# Altium schematic symbol library ISSI SRAM ASynchronous SRAM High Speed Low Power.SchLib: 413 symbols (part 2 of 21)
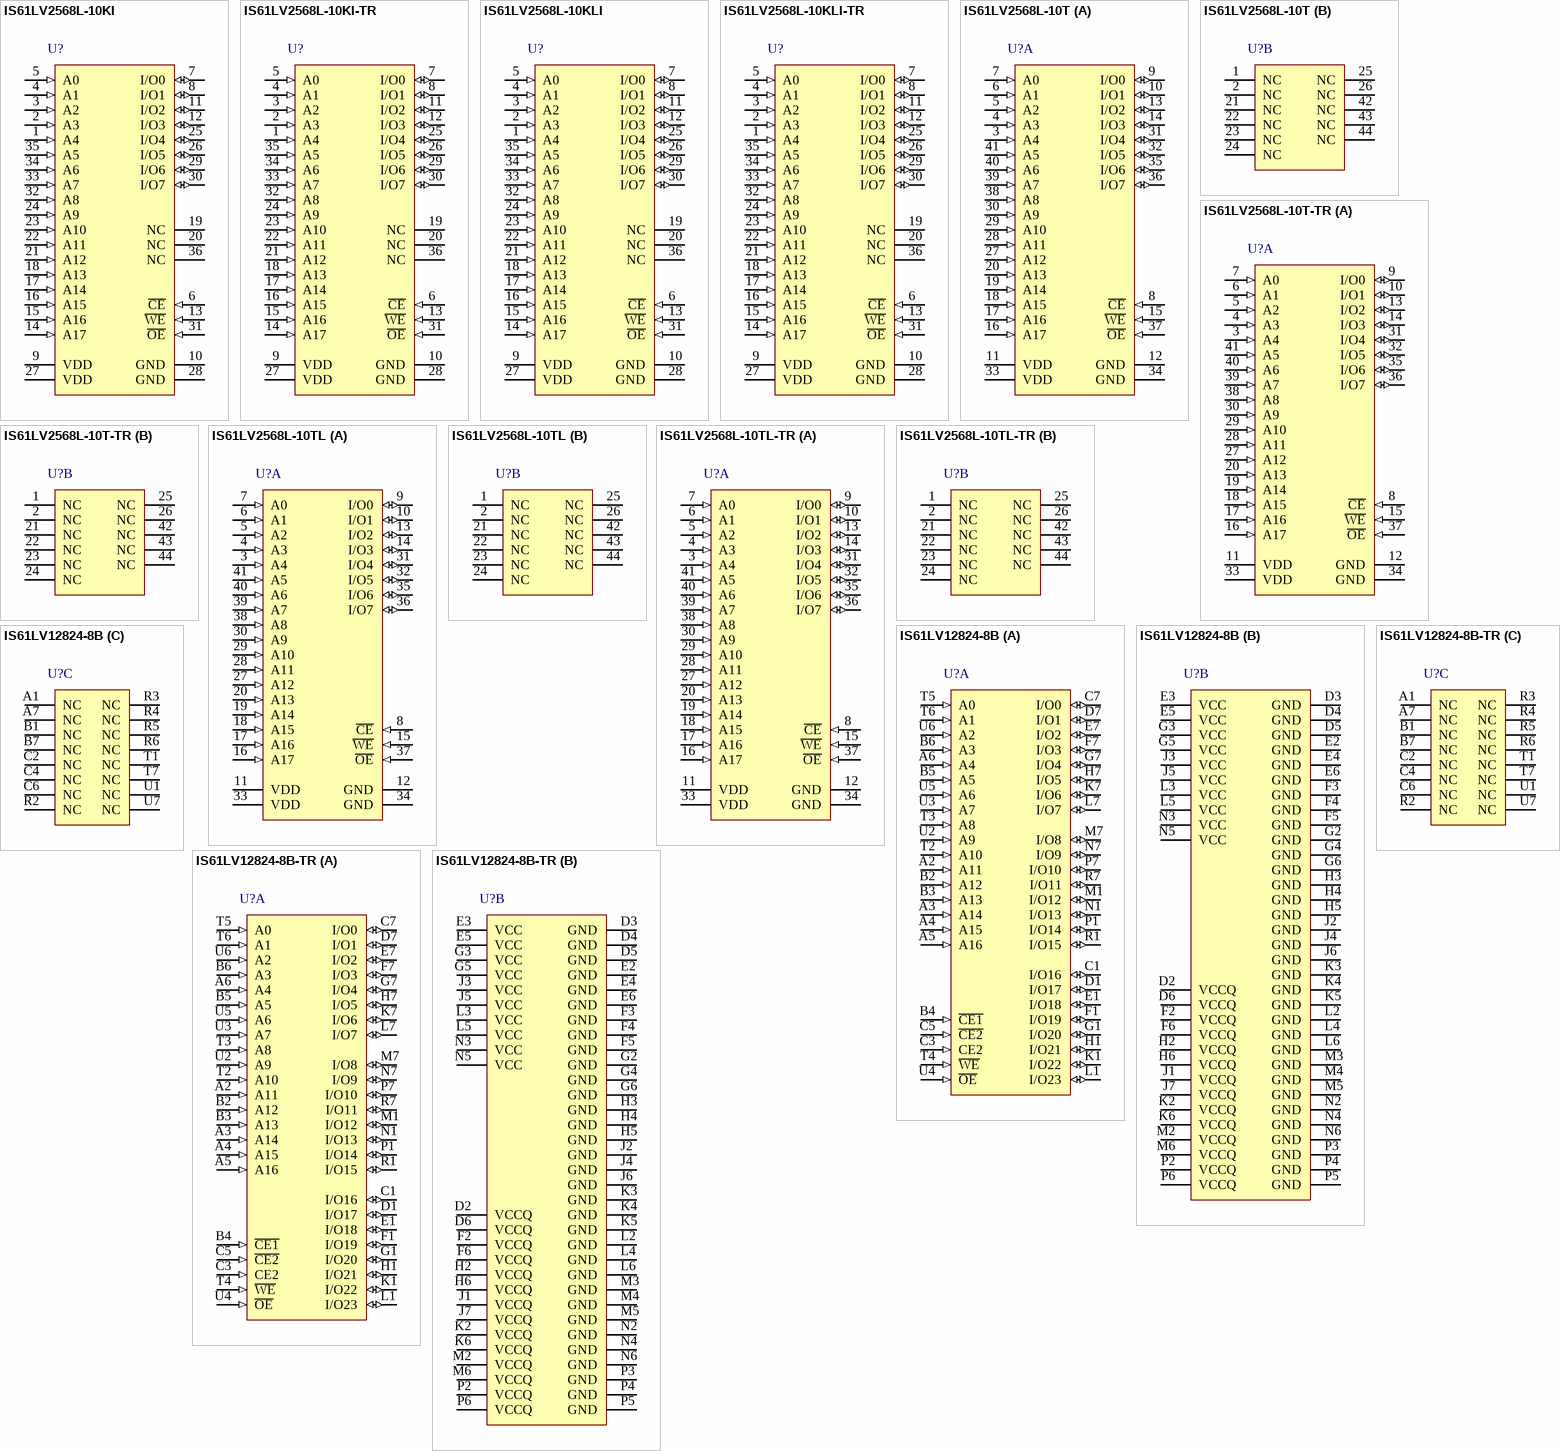
[diagram p29: symbols IS61LV2568L-10KI to IS61LV12824-8B-TR]

## IS61LV2568L-10T
designator U?
2 M High Speed CMOS SRAM, 256 K x 8, 0 to 70 degC, 44-Pin SOP (TSOP-2-44); Manufacturer: Integrated Silicon Solution Inc (ISSI); PartNumber: IS61LV2568L-10T; Density: 2M; Organization: 256K x 8; Packing: Tray / Tube; Speed (ns): 10; DatasheetVersion: Rev. D; PackageVersion: Rev. F, 06/2008; PackageReference: TSOP-2-44; PackageDescription: 44-Pin 400 mil TSOP-2, Body 18.41 x 10.16 mm, Pitch 0.8 mm; Supplier 1: Digi-Key; Supplier Part Number 1: IS61LV2568L-10T-ND; Supplier 2: Mouser; Supplier Part Number 2: 870-IS61LV2568L-10T; Mounting Technology: Surface Mount; ComponentLink1Description: Manufacturer URL; ComponentLink1URL: http://www.issi.com/US/index.shtml; ComponentLink2Description: Datasheet; ComponentLink2URL: http://www.issi.com/WW/pdf/61LV2568L.pdf; ComponentLink3Description: Package Specification; ComponentLink3URL: http://www.issi.com/WW/pdf/61-64WV6416EEBLL.pdf
footprint ISSI-TSOP-2-44_N (SOP, 44-Leads, Body 18.5x10.3mm, Pitch 0.8mm, IPC Medium Density)
part A pins: 3 A4 (in) "Address Input", 4 A3 (in) "Address Input", 5 A2 (in) "Address Input", 6 A1 (in) "Address Input", 7 A0 (in) "Address Input", 8 ~{CE} (in) "Chip Enable Input", 9 I/O0 (io) "Bidirectional Port", 10 I/O1 (io) "Bidirectional Port", 11 VDD (power) "Power", 12 GND (power) "Ground", 13 I/O2 (io) "Bidirectional Port", 14 I/O3 (io) "Bidirectional Port", 15 ~{WE} (in) "Write Enable Input", 16 A17 (in) "Address Input", 17 A16 (in) "Address Input", 18 A15 (in) "Address Input", 19 A14 (in) "Address Input", 20 A13 (in) "Address Input", 27 A12 (in) "Address Input", 28 A11 (in) "Address Input", 29 A10 (in) "Address Input", 30 A9 (in) "Address Input", 31 I/O4 (io) "Bidirectional Port", 32 I/O5 (io) "Bidirectional Port", 33 VDD (power) "Power", 34 GND (power) "Ground", 35 I/O6 (io) "Bidirectional Port", 36 I/O7 (io) "Bidirectional Port", 37 ~{OE} (in) "Output Enable Input", 38 A8 (in) "Address Input", 39 A7 (in) "Address Input", 40 A6 (in) "Address Input", 41 A5 (in) "Address Input"
part B pins: 1 NC "No Connection", 2 NC "No Connection", 21 NC "No Connection", 22 NC "No Connection", 23 NC "No Connection", 24 NC "No Connection", 25 NC "No Connection", 26 NC "No Connection", 42 NC "No Connection", 43 NC "No Connection", 44 NC "No Connection"

## IS61LV2568L-10T-TR
designator U?
2 M High Speed CMOS SRAM, 256 K x 8, 0 to 70 degC, 44-Pin SOP (TSOP-2-44); Manufacturer: Integrated Silicon Solution Inc (ISSI); PartNumber: IS61LV2568L-10T-TR; Density: 2M; Organization: 256K x 8; Packing: Tape & Reel; Speed (ns): 10; DatasheetVersion: Rev. D; PackageVersion: Rev. F, 06/2008; PackageReference: TSOP-2-44; PackageDescription: 44-Pin 400 mil TSOP-2, Body 18.41 x 10.16 mm, Pitch 0.8 mm; Supplier 1: Digi-Key; Supplier Part Number 1: IS61LV2568L-10T-TR-ND; Supplier 2: Mouser; Supplier Part Number 2: 870IS61LV2568L10TTR; Mounting Technology: Surface Mount; ComponentLink1Description: Manufacturer URL; ComponentLink1URL: http://www.issi.com/US/index.shtml; ComponentLink2Description: Datasheet; ComponentLink2URL: http://www.issi.com/WW/pdf/61LV2568L.pdf; ComponentLink3Description: Package Specification; ComponentLink3URL: http://www.issi.com/WW/pdf/61-64WV6416EEBLL.pdf
footprint ISSI-TSOP-2-44_N (SOP, 44-Leads, Body 18.5x10.3mm, Pitch 0.8mm, IPC Medium Density)
part A pins: 3 A4 (in) "Address Input", 4 A3 (in) "Address Input", 5 A2 (in) "Address Input", 6 A1 (in) "Address Input", 7 A0 (in) "Address Input", 8 ~{CE} (in) "Chip Enable Input", 9 I/O0 (io) "Bidirectional Port", 10 I/O1 (io) "Bidirectional Port", 11 VDD (power) "Power", 12 GND (power) "Ground", 13 I/O2 (io) "Bidirectional Port", 14 I/O3 (io) "Bidirectional Port", 15 ~{WE} (in) "Write Enable Input", 16 A17 (in) "Address Input", 17 A16 (in) "Address Input", 18 A15 (in) "Address Input", 19 A14 (in) "Address Input", 20 A13 (in) "Address Input", 27 A12 (in) "Address Input", 28 A11 (in) "Address Input", 29 A10 (in) "Address Input", 30 A9 (in) "Address Input", 31 I/O4 (io) "Bidirectional Port", 32 I/O5 (io) "Bidirectional Port", 33 VDD (power) "Power", 34 GND (power) "Ground", 35 I/O6 (io) "Bidirectional Port", 36 I/O7 (io) "Bidirectional Port", 37 ~{OE} (in) "Output Enable Input", 38 A8 (in) "Address Input", 39 A7 (in) "Address Input", 40 A6 (in) "Address Input", 41 A5 (in) "Address Input"
part B pins: 1 NC "No Connection", 2 NC "No Connection", 21 NC "No Connection", 22 NC "No Connection", 23 NC "No Connection", 24 NC "No Connection", 25 NC "No Connection", 26 NC "No Connection", 42 NC "No Connection", 43 NC "No Connection", 44 NC "No Connection"

## IS61LV2568L-10TL
designator U?
2 M High Speed CMOS SRAM, 256 K x 8, 0 to 70 degC, 44-Pin SOP (TSOP-2-44), Pb-Free; Manufacturer: Integrated Silicon Solution Inc (ISSI); PartNumber: IS61LV2568L-10TL; Density: 2M; Organization: 256K x 8; Packing: Tray / Tube; Speed (ns): 10; DatasheetVersion: Rev. D; PackageVersion: Rev. F, 06/2008; PackageReference: TSOP-2-44; PackageDescription: 44-Pin 400 mil TSOP-2, Body 18.41 x 10.16 mm, Pitch 0.8 mm; Supplier 1: Digi-Key; Supplier Part Number 1: IS61LV2568L-10TL-ND; Supplier 2: Mouser; Supplier Part Number 2: 870-IS61LV2568L-10TL; RoHS: Pb-Free; Mounting Technology: Surface Mount; ComponentLink1Description: Manufacturer URL; ComponentLink1URL: http://www.issi.com/US/index.shtml; ComponentLink2Description: Datasheet; ComponentLink2URL: http://www.issi.com/WW/pdf/61LV2568L.pdf; ComponentLink3Description: Package Specification; ComponentLink3URL: http://www.issi.com/WW/pdf/61-64WV6416EEBLL.pdf
footprint ISSI-TSOP-2-44_N (SOP, 44-Leads, Body 18.5x10.3mm, Pitch 0.8mm, IPC Medium Density)
part A pins: 3 A4 (in) "Address Input", 4 A3 (in) "Address Input", 5 A2 (in) "Address Input", 6 A1 (in) "Address Input", 7 A0 (in) "Address Input", 8 ~{CE} (in) "Chip Enable Input", 9 I/O0 (io) "Bidirectional Port", 10 I/O1 (io) "Bidirectional Port", 11 VDD (power) "Power", 12 GND (power) "Ground", 13 I/O2 (io) "Bidirectional Port", 14 I/O3 (io) "Bidirectional Port", 15 ~{WE} (in) "Write Enable Input", 16 A17 (in) "Address Input", 17 A16 (in) "Address Input", 18 A15 (in) "Address Input", 19 A14 (in) "Address Input", 20 A13 (in) "Address Input", 27 A12 (in) "Address Input", 28 A11 (in) "Address Input", 29 A10 (in) "Address Input", 30 A9 (in) "Address Input", 31 I/O4 (io) "Bidirectional Port", 32 I/O5 (io) "Bidirectional Port", 33 VDD (power) "Power", 34 GND (power) "Ground", 35 I/O6 (io) "Bidirectional Port", 36 I/O7 (io) "Bidirectional Port", 37 ~{OE} (in) "Output Enable Input", 38 A8 (in) "Address Input", 39 A7 (in) "Address Input", 40 A6 (in) "Address Input", 41 A5 (in) "Address Input"
part B pins: 1 NC "No Connection", 2 NC "No Connection", 21 NC "No Connection", 22 NC "No Connection", 23 NC "No Connection", 24 NC "No Connection", 25 NC "No Connection", 26 NC "No Connection", 42 NC "No Connection", 43 NC "No Connection", 44 NC "No Connection"

## IS61LV2568L-10TL-TR
designator U?
2 M High Speed CMOS SRAM, 256 K x 8, 0 to 70 degC, 44-Pin SOP (TSOP-2-44), Pb-Free; Manufacturer: Integrated Silicon Solution Inc (ISSI); PartNumber: IS61LV2568L-10TL-TR; Density: 2M; Organization: 256K x 8; Packing: Tape & Reel; Speed (ns): 10; DatasheetVersion: Rev. D; PackageVersion: Rev. F, 06/2008; PackageReference: TSOP-2-44; PackageDescription: 44-Pin 400 mil TSOP-2, Body 18.41 x 10.16 mm, Pitch 0.8 mm; Supplier 1: Digi-Key; Supplier Part Number 1: IS61LV2568L-10TL-TR-ND; Supplier 2: Mouser; Supplier Part Number 2: 870IS61LV2568L10TLTR; RoHS: Pb-Free; Mounting Technology: Surface Mount; ComponentLink1Description: Manufacturer URL; ComponentLink1URL: http://www.issi.com/US/index.shtml; ComponentLink2Description: Datasheet; ComponentLink2URL: http://www.issi.com/WW/pdf/61LV2568L.pdf; ComponentLink3Description: Package Specification; ComponentLink3URL: http://www.issi.com/WW/pdf/61-64WV6416EEBLL.pdf
footprint ISSI-TSOP-2-44_N (SOP, 44-Leads, Body 18.5x10.3mm, Pitch 0.8mm, IPC Medium Density)
part A pins: 3 A4 (in) "Address Input", 4 A3 (in) "Address Input", 5 A2 (in) "Address Input", 6 A1 (in) "Address Input", 7 A0 (in) "Address Input", 8 ~{CE} (in) "Chip Enable Input", 9 I/O0 (io) "Bidirectional Port", 10 I/O1 (io) "Bidirectional Port", 11 VDD (power) "Power", 12 GND (power) "Ground", 13 I/O2 (io) "Bidirectional Port", 14 I/O3 (io) "Bidirectional Port", 15 ~{WE} (in) "Write Enable Input", 16 A17 (in) "Address Input", 17 A16 (in) "Address Input", 18 A15 (in) "Address Input", 19 A14 (in) "Address Input", 20 A13 (in) "Address Input", 27 A12 (in) "Address Input", 28 A11 (in) "Address Input", 29 A10 (in) "Address Input", 30 A9 (in) "Address Input", 31 I/O4 (io) "Bidirectional Port", 32 I/O5 (io) "Bidirectional Port", 33 VDD (power) "Power", 34 GND (power) "Ground", 35 I/O6 (io) "Bidirectional Port", 36 I/O7 (io) "Bidirectional Port", 37 ~{OE} (in) "Output Enable Input", 38 A8 (in) "Address Input", 39 A7 (in) "Address Input", 40 A6 (in) "Address Input", 41 A5 (in) "Address Input"
part B pins: 1 NC "No Connection", 2 NC "No Connection", 21 NC "No Connection", 22 NC "No Connection", 23 NC "No Connection", 24 NC "No Connection", 25 NC "No Connection", 26 NC "No Connection", 42 NC "No Connection", 43 NC "No Connection", 44 NC "No Connection"

## IS61LV12824-8B
designator U?
3 M High Speed CMOS SRAM with 3.3 V Supply, 128 K x 24, 0 to 70 degC, 119-Pin BGA (PBGA-119); Manufacturer: Integrated Silicon Solution Inc (ISSI); PartNumber: IS61LV12824-8B; Density: 3M; Packing: Tray / Tube; Speed (ns): 8; DatasheetVersion: Rev. D; PackageVersion: Rev. B, 02/2003; PackageReference: PBGA-119; PackageDescription: 119-Pin 14 x 22 mm PBGA, Pitch 1.27 mm; Organization: 128K x 24; Mounting Technology: Surface Mount; ComponentLink1Description: Manufacturer URL; ComponentLink1URL: http://www.issi.com/US/index.shtml; ComponentLink2Description: Datasheet; ComponentLink2URL: http://www.issi.com/WW/pdf/61LV12824.pdf; ComponentLink3Description: Package Specification; ComponentLink3URL: http://www.issi.com/WW/pdf/61LV12824.pdf
footprint ISSI-PBGA-119-14000X22000DE_A (BGA, 119-Balls, Body 22x14mm, Pitch 1.27mm)
part A pins: A2 A11 (in) "Address Inputs", A3 A14 (in) "Address Inputs", A4 A15 (in) "Address Inputs", A5 A16 (in) "Address Inputs", A6 A4 (in) "Address Inputs", B2 A12 (in) "Address Inputs", B3 A13 (in) "Address Inputs", B4 ~{CE1} (in) "Chip Enable Input LOW", B5 A5 (in) "Address Input", B6 A3 (in) "Address Input", C1 I/O16 (io) "Data Inputs/Outputs", C3 CE2 (in) "Chip Enable Input HIGH", C5 ~{CE2} (in) "Chip Enable Input LOW", C7 I/O0 (io) "Data Inputs/Outputs", D1 I/O17 (io) "Data Inputs/Outputs", D7 I/O1 (io) "Data Inputs/Outputs", E1 I/O18 (io) "Data Inputs/Outputs", E7 I/O2 (io) "Data Inputs/Outputs", F1 I/O19 (io) "Data Inputs/Outputs", F7 I/O3 (io) "Data Inputs/Outputs", G1 I/O20 (io) "Data Inputs/Outputs", G7 I/O4 (io) "Data Inputs/Outputs", H1 I/O21 (io) "Data Inputs/Outputs", H7 I/O5 (io) "Data Inputs/Outputs", K1 I/O22 (io) "Data Inputs/Outputs", K7 I/O6 (io) "Data Inputs/Outputs", L1 I/O23 (io) "Data Inputs/Outputs", L7 I/O7 (io) "Data Inputs/Outputs", M1 I/O12 (io) "Data Inputs/Outputs", M7 I/O8 (io) "Data Inputs/Outputs", N1 I/O13 (io) "Data Inputs/Outputs", N7 I/O9 (io) "Data Inputs/Outputs", P1 I/O14 (io) "Data Inputs/Outputs", P7 I/O10 (io) "Data Inputs/Outputs", R1 I/O15 (io) "Data Inputs/Outputs", R7 I/O11 (io) "Data Inputs/Outputs", T2 A10 (in) "Address Inputs", T3 A8 (in) "Address Inputs", T4 ~{WE} (in) "Write Enable Input", T5 A0 (in) "Address Inputs", T6 A1 (in) "Address Inputs", U2 A9 (in) "Address Inputs", U3 A7 (in) "Address Inputs", U4 ~{OE} (in) "Output Enable Input", U5 A6 (in) "Address Inputs", U6 A2 (in) "Address Inputs"
part B pins: D2 VCCQ (power) "I/O Power", D3 GND (power) "Ground", D4 GND (power) "Ground", D5 GND (power) "Ground", D6 VCCQ (power) "I/O Power", E2 GND (power) "Ground", E3 VCC (power) "Power", E4 GND (power) "Ground", E5 VCC (power) "Power", E6 GND (power) "Ground", F2 VCCQ (power) "I/O Power", F3 GND (power) "Ground", F4 GND (power) "Ground", F5 GND (power) "Ground", F6 VCCQ (power) "I/O Power", G2 GND (power) "Ground", G3 VCC (power) "Power", G4 GND (power) "Ground", G5 VCC (power) "Power", G6 GND (power) "Ground", H2 VCCQ (power) "I/O Power", H3 GND (power) "Ground", H4 GND (power) "Ground", H5 GND (power) "Ground", H6 VCCQ (power) "I/O Power", J1 VCCQ (power) "I/O Power", J2 GND (power) "Ground", J3 VCC (power) "Power", J4 GND (power) "Ground", J5 VCC (power) "Power", J6 GND (power) "Ground", J7 VCCQ (power) "I/O Power", K2 VCCQ (power) "I/O Power", K3 GND (power) "Ground", K4 GND (power) "Ground", K5 GND (power) "Ground", K6 VCCQ (power) "I/O Power", L2 GND (power) "Ground", L3 VCC (power) "Power", L4 GND (power) "Ground", L5 VCC (power) "Power", L6 GND (power) "Ground", M2 VCCQ (power) "I/O Power", M3 GND (power) "Ground", M4 GND (power) "Ground", M5 GND (power) "Ground", M6 VCCQ (power) "I/O Power", N2 GND (power) "Ground", N3 VCC (power) "Power", N4 GND (power) "Ground", N5 VCC (power) "Power", N6 GND (power) "Ground", P2 VCCQ (power) "I/O Power", P3 GND (power) "Ground", P4 GND (power) "Ground", P5 GND (power) "Ground", P6 VCCQ (power) "I/O Power"
part C pins: A1 NC "No Connection", A7 NC "No Connection", B1 NC "No Connection", B7 NC "No Connection", C2 NC "No Connection", C4 NC "No Connection", C6 NC "No Connection", R2 NC "No Connection", R3 NC "No Connection", R4 NC "No Connection", R5 NC "No Connection", R6 NC "No Connection", T1 NC "No Connection", T7 NC "No Connection", U1 NC "No Connection", U7 NC "No Connection"

## IS61LV12824-8B-TR
designator U?
3 M High Speed CMOS SRAM with 3.3 V Supply, 128 K x 24, 0 to 70 degC, 119-Pin BGA (PBGA-119); Manufacturer: Integrated Silicon Solution Inc (ISSI); PartNumber: IS61LV12824-8B-TR; Density: 3M; Packing: Tape & Reel; Speed (ns): 8; DatasheetVersion: Rev. D; PackageVersion: Rev. B, 02/2003; PackageReference: PBGA-119; PackageDescription: 119-Pin 14 x 22 mm PBGA, Pitch 1.27 mm; Organization: 128K x 24; Mounting Technology: Surface Mount; ComponentLink1Description: Manufacturer URL; ComponentLink1URL: http://www.issi.com/US/index.shtml; ComponentLink2Description: Datasheet; ComponentLink2URL: http://www.issi.com/WW/pdf/61LV12824.pdf; ComponentLink3Description: Package Specification; ComponentLink3URL: http://www.issi.com/WW/pdf/61LV12824.pdf
footprint ISSI-PBGA-119-14000X22000DE_A (BGA, 119-Balls, Body 22x14mm, Pitch 1.27mm)
part A pins: A2 A11 (in) "Address Inputs", A3 A14 (in) "Address Inputs", A4 A15 (in) "Address Inputs", A5 A16 (in) "Address Inputs", A6 A4 (in) "Address Inputs", B2 A12 (in) "Address Inputs", B3 A13 (in) "Address Inputs", B4 ~{CE1} (in) "Chip Enable Input LOW", B5 A5 (in) "Address Input", B6 A3 (in) "Address Input", C1 I/O16 (io) "Data Inputs/Outputs", C3 CE2 (in) "Chip Enable Input HIGH", C5 ~{CE2} (in) "Chip Enable Input LOW", C7 I/O0 (io) "Data Inputs/Outputs", D1 I/O17 (io) "Data Inputs/Outputs", D7 I/O1 (io) "Data Inputs/Outputs", E1 I/O18 (io) "Data Inputs/Outputs", E7 I/O2 (io) "Data Inputs/Outputs", F1 I/O19 (io) "Data Inputs/Outputs", F7 I/O3 (io) "Data Inputs/Outputs", G1 I/O20 (io) "Data Inputs/Outputs", G7 I/O4 (io) "Data Inputs/Outputs", H1 I/O21 (io) "Data Inputs/Outputs", H7 I/O5 (io) "Data Inputs/Outputs", K1 I/O22 (io) "Data Inputs/Outputs", K7 I/O6 (io) "Data Inputs/Outputs", L1 I/O23 (io) "Data Inputs/Outputs", L7 I/O7 (io) "Data Inputs/Outputs", M1 I/O12 (io) "Data Inputs/Outputs", M7 I/O8 (io) "Data Inputs/Outputs", N1 I/O13 (io) "Data Inputs/Outputs", N7 I/O9 (io) "Data Inputs/Outputs", P1 I/O14 (io) "Data Inputs/Outputs", P7 I/O10 (io) "Data Inputs/Outputs", R1 I/O15 (io) "Data Inputs/Outputs", R7 I/O11 (io) "Data Inputs/Outputs", T2 A10 (in) "Address Inputs", T3 A8 (in) "Address Inputs", T4 ~{WE} (in) "Write Enable Input", T5 A0 (in) "Address Inputs", T6 A1 (in) "Address Inputs", U2 A9 (in) "Address Inputs", U3 A7 (in) "Address Inputs", U4 ~{OE} (in) "Output Enable Input", U5 A6 (in) "Address Inputs", U6 A2 (in) "Address Inputs"
part B pins: D2 VCCQ (power) "I/O Power", D3 GND (power) "Ground", D4 GND (power) "Ground", D5 GND (power) "Ground", D6 VCCQ (power) "I/O Power", E2 GND (power) "Ground", E3 VCC (power) "Power", E4 GND (power) "Ground", E5 VCC (power) "Power", E6 GND (power) "Ground", F2 VCCQ (power) "I/O Power", F3 GND (power) "Ground", F4 GND (power) "Ground", F5 GND (power) "Ground", F6 VCCQ (power) "I/O Power", G2 GND (power) "Ground", G3 VCC (power) "Power", G4 GND (power) "Ground", G5 VCC (power) "Power", G6 GND (power) "Ground", H2 VCCQ (power) "I/O Power", H3 GND (power) "Ground", H4 GND (power) "Ground", H5 GND (power) "Ground", H6 VCCQ (power) "I/O Power", J1 VCCQ (power) "I/O Power", J2 GND (power) "Ground", J3 VCC (power) "Power", J4 GND (power) "Ground", J5 VCC (power) "Power", J6 GND (power) "Ground", J7 VCCQ (power) "I/O Power", K2 VCCQ (power) "I/O Power", K3 GND (power) "Ground", K4 GND (power) "Ground", K5 GND (power) "Ground", K6 VCCQ (power) "I/O Power", L2 GND (power) "Ground", L3 VCC (power) "Power", L4 GND (power) "Ground", L5 VCC (power) "Power", L6 GND (power) "Ground", M2 VCCQ (power) "I/O Power", M3 GND (power) "Ground", M4 GND (power) "Ground", M5 GND (power) "Ground", M6 VCCQ (power) "I/O Power", N2 GND (power) "Ground", N3 VCC (power) "Power", N4 GND (power) "Ground", N5 VCC (power) "Power", N6 GND (power) "Ground", P2 VCCQ (power) "I/O Power", P3 GND (power) "Ground", P4 GND (power) "Ground", P5 GND (power) "Ground", P6 VCCQ (power) "I/O Power"
part C pins: A1 NC "No Connection", A7 NC "No Connection", B1 NC "No Connection", B7 NC "No Connection", C2 NC "No Connection", C4 NC "No Connection", C6 NC "No Connection", R2 NC "No Connection", R3 NC "No Connection", R4 NC "No Connection", R5 NC "No Connection", R6 NC "No Connection", T1 NC "No Connection", T7 NC "No Connection", U1 NC "No Connection", U7 NC "No Connection"

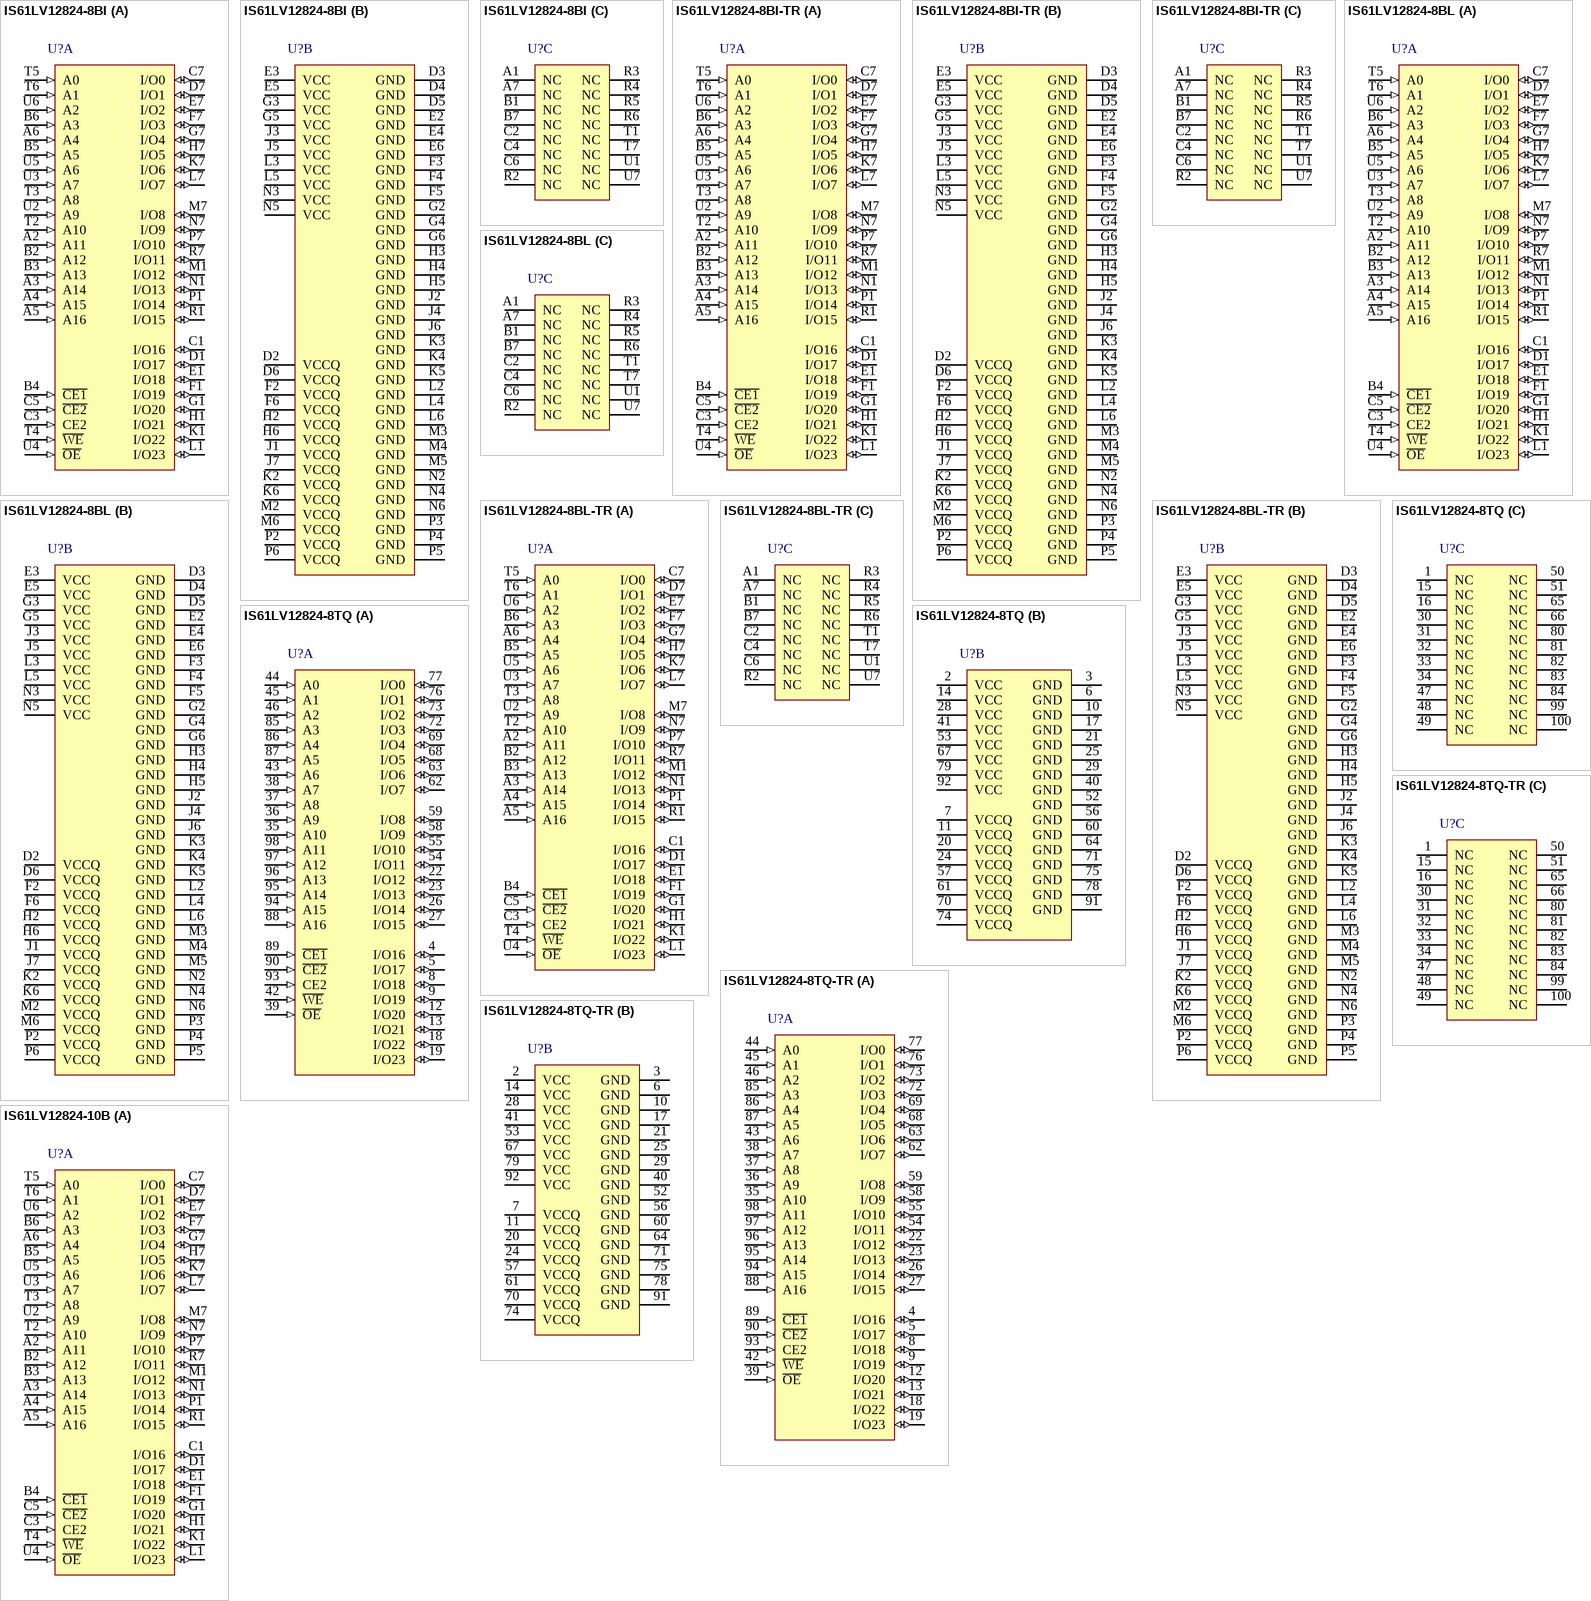
[diagram p2: symbols IS61LV12824-8BI to IS61LV12824-10B]

## IS61LV12824-8BI
designator U?
3 M High Speed CMOS SRAM with 3.3 V Supply, 128 K x 24, -40 to 85 degC, 119-Pin BGA (PBGA-119); Manufacturer: Integrated Silicon Solution Inc (ISSI); PartNumber: IS61LV12824-8BI; Density: 3M; Packing: Tray / Tube; Speed (ns): 8; DatasheetVersion: Rev. D; PackageVersion: Rev. B, 02/2003; PackageReference: PBGA-119; PackageDescription: 119-Pin 14 x 22 mm PBGA, Pitch 1.27 mm; Organization: 128K x 24; Mounting Technology: Surface Mount; ComponentLink1Description: Manufacturer URL; ComponentLink1URL: http://www.issi.com/US/index.shtml; ComponentLink2Description: Datasheet; ComponentLink2URL: http://www.issi.com/WW/pdf/61LV12824.pdf; ComponentLink3Description: Package Specification; ComponentLink3URL: http://www.issi.com/WW/pdf/61LV12824.pdf
footprint ISSI-PBGA-119-14000X22000DE_A (BGA, 119-Balls, Body 22x14mm, Pitch 1.27mm)
part A pins: A2 A11 (in) "Address Inputs", A3 A14 (in) "Address Inputs", A4 A15 (in) "Address Inputs", A5 A16 (in) "Address Inputs", A6 A4 (in) "Address Inputs", B2 A12 (in) "Address Inputs", B3 A13 (in) "Address Inputs", B4 ~{CE1} (in) "Chip Enable Input LOW", B5 A5 (in) "Address Input", B6 A3 (in) "Address Input", C1 I/O16 (io) "Data Inputs/Outputs", C3 CE2 (in) "Chip Enable Input HIGH", C5 ~{CE2} (in) "Chip Enable Input LOW", C7 I/O0 (io) "Data Inputs/Outputs", D1 I/O17 (io) "Data Inputs/Outputs", D7 I/O1 (io) "Data Inputs/Outputs", E1 I/O18 (io) "Data Inputs/Outputs", E7 I/O2 (io) "Data Inputs/Outputs", F1 I/O19 (io) "Data Inputs/Outputs", F7 I/O3 (io) "Data Inputs/Outputs", G1 I/O20 (io) "Data Inputs/Outputs", G7 I/O4 (io) "Data Inputs/Outputs", H1 I/O21 (io) "Data Inputs/Outputs", H7 I/O5 (io) "Data Inputs/Outputs", K1 I/O22 (io) "Data Inputs/Outputs", K7 I/O6 (io) "Data Inputs/Outputs", L1 I/O23 (io) "Data Inputs/Outputs", L7 I/O7 (io) "Data Inputs/Outputs", M1 I/O12 (io) "Data Inputs/Outputs", M7 I/O8 (io) "Data Inputs/Outputs", N1 I/O13 (io) "Data Inputs/Outputs", N7 I/O9 (io) "Data Inputs/Outputs", P1 I/O14 (io) "Data Inputs/Outputs", P7 I/O10 (io) "Data Inputs/Outputs", R1 I/O15 (io) "Data Inputs/Outputs", R7 I/O11 (io) "Data Inputs/Outputs", T2 A10 (in) "Address Inputs", T3 A8 (in) "Address Inputs", T4 ~{WE} (in) "Write Enable Input", T5 A0 (in) "Address Inputs", T6 A1 (in) "Address Inputs", U2 A9 (in) "Address Inputs", U3 A7 (in) "Address Inputs", U4 ~{OE} (in) "Output Enable Input", U5 A6 (in) "Address Inputs", U6 A2 (in) "Address Inputs"
part B pins: D2 VCCQ (power) "I/O Power", D3 GND (power) "Ground", D4 GND (power) "Ground", D5 GND (power) "Ground", D6 VCCQ (power) "I/O Power", E2 GND (power) "Ground", E3 VCC (power) "Power", E4 GND (power) "Ground", E5 VCC (power) "Power", E6 GND (power) "Ground", F2 VCCQ (power) "I/O Power", F3 GND (power) "Ground", F4 GND (power) "Ground", F5 GND (power) "Ground", F6 VCCQ (power) "I/O Power", G2 GND (power) "Ground", G3 VCC (power) "Power", G4 GND (power) "Ground", G5 VCC (power) "Power", G6 GND (power) "Ground", H2 VCCQ (power) "I/O Power", H3 GND (power) "Ground", H4 GND (power) "Ground", H5 GND (power) "Ground", H6 VCCQ (power) "I/O Power", J1 VCCQ (power) "I/O Power", J2 GND (power) "Ground", J3 VCC (power) "Power", J4 GND (power) "Ground", J5 VCC (power) "Power", J6 GND (power) "Ground", J7 VCCQ (power) "I/O Power", K2 VCCQ (power) "I/O Power", K3 GND (power) "Ground", K4 GND (power) "Ground", K5 GND (power) "Ground", K6 VCCQ (power) "I/O Power", L2 GND (power) "Ground", L3 VCC (power) "Power", L4 GND (power) "Ground", L5 VCC (power) "Power", L6 GND (power) "Ground", M2 VCCQ (power) "I/O Power", M3 GND (power) "Ground", M4 GND (power) "Ground", M5 GND (power) "Ground", M6 VCCQ (power) "I/O Power", N2 GND (power) "Ground", N3 VCC (power) "Power", N4 GND (power) "Ground", N5 VCC (power) "Power", N6 GND (power) "Ground", P2 VCCQ (power) "I/O Power", P3 GND (power) "Ground", P4 GND (power) "Ground", P5 GND (power) "Ground", P6 VCCQ (power) "I/O Power"
part C pins: A1 NC "No Connection", A7 NC "No Connection", B1 NC "No Connection", B7 NC "No Connection", C2 NC "No Connection", C4 NC "No Connection", C6 NC "No Connection", R2 NC "No Connection", R3 NC "No Connection", R4 NC "No Connection", R5 NC "No Connection", R6 NC "No Connection", T1 NC "No Connection", T7 NC "No Connection", U1 NC "No Connection", U7 NC "No Connection"

## IS61LV12824-8BI-TR
designator U?
3 M High Speed CMOS SRAM with 3.3 V Supply, 128 K x 24, -40 to 85 degC, 119-Pin BGA (PBGA-119); Manufacturer: Integrated Silicon Solution Inc (ISSI); PartNumber: IS61LV12824-8BI-TR; Density: 3M; Packing: Tape & Reel; Speed (ns): 8; DatasheetVersion: Rev. D; PackageVersion: Rev. B, 02/2003; PackageReference: PBGA-119; PackageDescription: 119-Pin 14 x 22 mm PBGA, Pitch 1.27 mm; Organization: 128K x 24; Mounting Technology: Surface Mount; ComponentLink1Description: Manufacturer URL; ComponentLink1URL: http://www.issi.com/US/index.shtml; ComponentLink2Description: Datasheet; ComponentLink2URL: http://www.issi.com/WW/pdf/61LV12824.pdf; ComponentLink3Description: Package Specification; ComponentLink3URL: http://www.issi.com/WW/pdf/61LV12824.pdf
footprint ISSI-PBGA-119-14000X22000DE_A (BGA, 119-Balls, Body 22x14mm, Pitch 1.27mm)
part A pins: A2 A11 (in) "Address Inputs", A3 A14 (in) "Address Inputs", A4 A15 (in) "Address Inputs", A5 A16 (in) "Address Inputs", A6 A4 (in) "Address Inputs", B2 A12 (in) "Address Inputs", B3 A13 (in) "Address Inputs", B4 ~{CE1} (in) "Chip Enable Input LOW", B5 A5 (in) "Address Input", B6 A3 (in) "Address Input", C1 I/O16 (io) "Data Inputs/Outputs", C3 CE2 (in) "Chip Enable Input HIGH", C5 ~{CE2} (in) "Chip Enable Input LOW", C7 I/O0 (io) "Data Inputs/Outputs", D1 I/O17 (io) "Data Inputs/Outputs", D7 I/O1 (io) "Data Inputs/Outputs", E1 I/O18 (io) "Data Inputs/Outputs", E7 I/O2 (io) "Data Inputs/Outputs", F1 I/O19 (io) "Data Inputs/Outputs", F7 I/O3 (io) "Data Inputs/Outputs", G1 I/O20 (io) "Data Inputs/Outputs", G7 I/O4 (io) "Data Inputs/Outputs", H1 I/O21 (io) "Data Inputs/Outputs", H7 I/O5 (io) "Data Inputs/Outputs", K1 I/O22 (io) "Data Inputs/Outputs", K7 I/O6 (io) "Data Inputs/Outputs", L1 I/O23 (io) "Data Inputs/Outputs", L7 I/O7 (io) "Data Inputs/Outputs", M1 I/O12 (io) "Data Inputs/Outputs", M7 I/O8 (io) "Data Inputs/Outputs", N1 I/O13 (io) "Data Inputs/Outputs", N7 I/O9 (io) "Data Inputs/Outputs", P1 I/O14 (io) "Data Inputs/Outputs", P7 I/O10 (io) "Data Inputs/Outputs", R1 I/O15 (io) "Data Inputs/Outputs", R7 I/O11 (io) "Data Inputs/Outputs", T2 A10 (in) "Address Inputs", T3 A8 (in) "Address Inputs", T4 ~{WE} (in) "Write Enable Input", T5 A0 (in) "Address Inputs", T6 A1 (in) "Address Inputs", U2 A9 (in) "Address Inputs", U3 A7 (in) "Address Inputs", U4 ~{OE} (in) "Output Enable Input", U5 A6 (in) "Address Inputs", U6 A2 (in) "Address Inputs"
part B pins: D2 VCCQ (power) "I/O Power", D3 GND (power) "Ground", D4 GND (power) "Ground", D5 GND (power) "Ground", D6 VCCQ (power) "I/O Power", E2 GND (power) "Ground", E3 VCC (power) "Power", E4 GND (power) "Ground", E5 VCC (power) "Power", E6 GND (power) "Ground", F2 VCCQ (power) "I/O Power", F3 GND (power) "Ground", F4 GND (power) "Ground", F5 GND (power) "Ground", F6 VCCQ (power) "I/O Power", G2 GND (power) "Ground", G3 VCC (power) "Power", G4 GND (power) "Ground", G5 VCC (power) "Power", G6 GND (power) "Ground", H2 VCCQ (power) "I/O Power", H3 GND (power) "Ground", H4 GND (power) "Ground", H5 GND (power) "Ground", H6 VCCQ (power) "I/O Power", J1 VCCQ (power) "I/O Power", J2 GND (power) "Ground", J3 VCC (power) "Power", J4 GND (power) "Ground", J5 VCC (power) "Power", J6 GND (power) "Ground", J7 VCCQ (power) "I/O Power", K2 VCCQ (power) "I/O Power", K3 GND (power) "Ground", K4 GND (power) "Ground", K5 GND (power) "Ground", K6 VCCQ (power) "I/O Power", L2 GND (power) "Ground", L3 VCC (power) "Power", L4 GND (power) "Ground", L5 VCC (power) "Power", L6 GND (power) "Ground", M2 VCCQ (power) "I/O Power", M3 GND (power) "Ground", M4 GND (power) "Ground", M5 GND (power) "Ground", M6 VCCQ (power) "I/O Power", N2 GND (power) "Ground", N3 VCC (power) "Power", N4 GND (power) "Ground", N5 VCC (power) "Power", N6 GND (power) "Ground", P2 VCCQ (power) "I/O Power", P3 GND (power) "Ground", P4 GND (power) "Ground", P5 GND (power) "Ground", P6 VCCQ (power) "I/O Power"
part C pins: A1 NC "No Connection", A7 NC "No Connection", B1 NC "No Connection", B7 NC "No Connection", C2 NC "No Connection", C4 NC "No Connection", C6 NC "No Connection", R2 NC "No Connection", R3 NC "No Connection", R4 NC "No Connection", R5 NC "No Connection", R6 NC "No Connection", T1 NC "No Connection", T7 NC "No Connection", U1 NC "No Connection", U7 NC "No Connection"

## IS61LV12824-8BL
designator U?
3 M High Speed CMOS SRAM with 3.3 V Supply, 128 K x 24, 0 to 70 degC, 119-Pin BGA (PBGA-119), Pb-Free; Manufacturer: Integrated Silicon Solution Inc (ISSI); PartNumber: IS61LV12824-8BL; Density: 3M; Packing: Tray / Tube; Speed (ns): 8; DatasheetVersion: Rev. D; PackageVersion: Rev. B, 02/2003; PackageReference: PBGA-119; PackageDescription: 119-Pin 14 x 22 mm PBGA, Pitch 1.27 mm; Supplier 1: Mouser; Supplier Part Number 1: 870-61LV12824-8BL; Organization: 128K x 24; RoHS: Pb-Free; Mounting Technology: Surface Mount; ComponentLink1Description: Manufacturer URL; ComponentLink1URL: http://www.issi.com/US/index.shtml; ComponentLink2Description: Datasheet; ComponentLink2URL: http://www.issi.com/WW/pdf/61LV12824.pdf; ComponentLink3Description: Package Specification; ComponentLink3URL: http://www.issi.com/WW/pdf/61LV12824.pdf
footprint ISSI-PBGA-119-14000X22000DE_A (BGA, 119-Balls, Body 22x14mm, Pitch 1.27mm)
part A pins: A2 A11 (in) "Address Inputs", A3 A14 (in) "Address Inputs", A4 A15 (in) "Address Inputs", A5 A16 (in) "Address Inputs", A6 A4 (in) "Address Inputs", B2 A12 (in) "Address Inputs", B3 A13 (in) "Address Inputs", B4 ~{CE1} (in) "Chip Enable Input LOW", B5 A5 (in) "Address Input", B6 A3 (in) "Address Input", C1 I/O16 (io) "Data Inputs/Outputs", C3 CE2 (in) "Chip Enable Input HIGH", C5 ~{CE2} (in) "Chip Enable Input LOW", C7 I/O0 (io) "Data Inputs/Outputs", D1 I/O17 (io) "Data Inputs/Outputs", D7 I/O1 (io) "Data Inputs/Outputs", E1 I/O18 (io) "Data Inputs/Outputs", E7 I/O2 (io) "Data Inputs/Outputs", F1 I/O19 (io) "Data Inputs/Outputs", F7 I/O3 (io) "Data Inputs/Outputs", G1 I/O20 (io) "Data Inputs/Outputs", G7 I/O4 (io) "Data Inputs/Outputs", H1 I/O21 (io) "Data Inputs/Outputs", H7 I/O5 (io) "Data Inputs/Outputs", K1 I/O22 (io) "Data Inputs/Outputs", K7 I/O6 (io) "Data Inputs/Outputs", L1 I/O23 (io) "Data Inputs/Outputs", L7 I/O7 (io) "Data Inputs/Outputs", M1 I/O12 (io) "Data Inputs/Outputs", M7 I/O8 (io) "Data Inputs/Outputs", N1 I/O13 (io) "Data Inputs/Outputs", N7 I/O9 (io) "Data Inputs/Outputs", P1 I/O14 (io) "Data Inputs/Outputs", P7 I/O10 (io) "Data Inputs/Outputs", R1 I/O15 (io) "Data Inputs/Outputs", R7 I/O11 (io) "Data Inputs/Outputs", T2 A10 (in) "Address Inputs", T3 A8 (in) "Address Inputs", T4 ~{WE} (in) "Write Enable Input", T5 A0 (in) "Address Inputs", T6 A1 (in) "Address Inputs", U2 A9 (in) "Address Inputs", U3 A7 (in) "Address Inputs", U4 ~{OE} (in) "Output Enable Input", U5 A6 (in) "Address Inputs", U6 A2 (in) "Address Inputs"
part B pins: D2 VCCQ (power) "I/O Power", D3 GND (power) "Ground", D4 GND (power) "Ground", D5 GND (power) "Ground", D6 VCCQ (power) "I/O Power", E2 GND (power) "Ground", E3 VCC (power) "Power", E4 GND (power) "Ground", E5 VCC (power) "Power", E6 GND (power) "Ground", F2 VCCQ (power) "I/O Power", F3 GND (power) "Ground", F4 GND (power) "Ground", F5 GND (power) "Ground", F6 VCCQ (power) "I/O Power", G2 GND (power) "Ground", G3 VCC (power) "Power", G4 GND (power) "Ground", G5 VCC (power) "Power", G6 GND (power) "Ground", H2 VCCQ (power) "I/O Power", H3 GND (power) "Ground", H4 GND (power) "Ground", H5 GND (power) "Ground", H6 VCCQ (power) "I/O Power", J1 VCCQ (power) "I/O Power", J2 GND (power) "Ground", J3 VCC (power) "Power", J4 GND (power) "Ground", J5 VCC (power) "Power", J6 GND (power) "Ground", J7 VCCQ (power) "I/O Power", K2 VCCQ (power) "I/O Power", K3 GND (power) "Ground", K4 GND (power) "Ground", K5 GND (power) "Ground", K6 VCCQ (power) "I/O Power", L2 GND (power) "Ground", L3 VCC (power) "Power", L4 GND (power) "Ground", L5 VCC (power) "Power", L6 GND (power) "Ground", M2 VCCQ (power) "I/O Power", M3 GND (power) "Ground", M4 GND (power) "Ground", M5 GND (power) "Ground", M6 VCCQ (power) "I/O Power", N2 GND (power) "Ground", N3 VCC (power) "Power", N4 GND (power) "Ground", N5 VCC (power) "Power", N6 GND (power) "Ground", P2 VCCQ (power) "I/O Power", P3 GND (power) "Ground", P4 GND (power) "Ground", P5 GND (power) "Ground", P6 VCCQ (power) "I/O Power"
part C pins: A1 NC "No Connection", A7 NC "No Connection", B1 NC "No Connection", B7 NC "No Connection", C2 NC "No Connection", C4 NC "No Connection", C6 NC "No Connection", R2 NC "No Connection", R3 NC "No Connection", R4 NC "No Connection", R5 NC "No Connection", R6 NC "No Connection", T1 NC "No Connection", T7 NC "No Connection", U1 NC "No Connection", U7 NC "No Connection"

## IS61LV12824-8BL-TR
designator U?
3 M High Speed CMOS SRAM with 3.3 V Supply, 128 K x 24, 0 to 70 degC, 119-Pin BGA (PBGA-119), Pb-Free; Manufacturer: Integrated Silicon Solution Inc (ISSI); PartNumber: IS61LV12824-8BL-TR; Density: 3M; Packing: Tape & Reel; Speed (ns): 8; DatasheetVersion: Rev. D; PackageVersion: Rev. B, 02/2003; PackageReference: PBGA-119; PackageDescription: 119-Pin 14 x 22 mm PBGA, Pitch 1.27 mm; Supplier 1: Digi-Key; Supplier Part Number 1: IS61LV12824-8BL-TR-ND; Supplier 2: Mouser; Supplier Part Number 2: 870-61LV12824-8BLT; Organization: 128K x 24; RoHS: Pb-Free; Mounting Technology: Surface Mount; ComponentLink1Description: Manufacturer URL; ComponentLink1URL: http://www.issi.com/US/index.shtml; ComponentLink2Description: Datasheet; ComponentLink2URL: http://www.issi.com/WW/pdf/61LV12824.pdf; ComponentLink3Description: Package Specification; ComponentLink3URL: http://www.issi.com/WW/pdf/61LV12824.pdf
footprint ISSI-PBGA-119-14000X22000DE_A (BGA, 119-Balls, Body 22x14mm, Pitch 1.27mm)
part A pins: A2 A11 (in) "Address Inputs", A3 A14 (in) "Address Inputs", A4 A15 (in) "Address Inputs", A5 A16 (in) "Address Inputs", A6 A4 (in) "Address Inputs", B2 A12 (in) "Address Inputs", B3 A13 (in) "Address Inputs", B4 ~{CE1} (in) "Chip Enable Input LOW", B5 A5 (in) "Address Input", B6 A3 (in) "Address Input", C1 I/O16 (io) "Data Inputs/Outputs", C3 CE2 (in) "Chip Enable Input HIGH", C5 ~{CE2} (in) "Chip Enable Input LOW", C7 I/O0 (io) "Data Inputs/Outputs", D1 I/O17 (io) "Data Inputs/Outputs", D7 I/O1 (io) "Data Inputs/Outputs", E1 I/O18 (io) "Data Inputs/Outputs", E7 I/O2 (io) "Data Inputs/Outputs", F1 I/O19 (io) "Data Inputs/Outputs", F7 I/O3 (io) "Data Inputs/Outputs", G1 I/O20 (io) "Data Inputs/Outputs", G7 I/O4 (io) "Data Inputs/Outputs", H1 I/O21 (io) "Data Inputs/Outputs", H7 I/O5 (io) "Data Inputs/Outputs", K1 I/O22 (io) "Data Inputs/Outputs", K7 I/O6 (io) "Data Inputs/Outputs", L1 I/O23 (io) "Data Inputs/Outputs", L7 I/O7 (io) "Data Inputs/Outputs", M1 I/O12 (io) "Data Inputs/Outputs", M7 I/O8 (io) "Data Inputs/Outputs", N1 I/O13 (io) "Data Inputs/Outputs", N7 I/O9 (io) "Data Inputs/Outputs", P1 I/O14 (io) "Data Inputs/Outputs", P7 I/O10 (io) "Data Inputs/Outputs", R1 I/O15 (io) "Data Inputs/Outputs", R7 I/O11 (io) "Data Inputs/Outputs", T2 A10 (in) "Address Inputs", T3 A8 (in) "Address Inputs", T4 ~{WE} (in) "Write Enable Input", T5 A0 (in) "Address Inputs", T6 A1 (in) "Address Inputs", U2 A9 (in) "Address Inputs", U3 A7 (in) "Address Inputs", U4 ~{OE} (in) "Output Enable Input", U5 A6 (in) "Address Inputs", U6 A2 (in) "Address Inputs"
part B pins: D2 VCCQ (power) "I/O Power", D3 GND (power) "Ground", D4 GND (power) "Ground", D5 GND (power) "Ground", D6 VCCQ (power) "I/O Power", E2 GND (power) "Ground", E3 VCC (power) "Power", E4 GND (power) "Ground", E5 VCC (power) "Power", E6 GND (power) "Ground", F2 VCCQ (power) "I/O Power", F3 GND (power) "Ground", F4 GND (power) "Ground", F5 GND (power) "Ground", F6 VCCQ (power) "I/O Power", G2 GND (power) "Ground", G3 VCC (power) "Power", G4 GND (power) "Ground", G5 VCC (power) "Power", G6 GND (power) "Ground", H2 VCCQ (power) "I/O Power", H3 GND (power) "Ground", H4 GND (power) "Ground", H5 GND (power) "Ground", H6 VCCQ (power) "I/O Power", J1 VCCQ (power) "I/O Power", J2 GND (power) "Ground", J3 VCC (power) "Power", J4 GND (power) "Ground", J5 VCC (power) "Power", J6 GND (power) "Ground", J7 VCCQ (power) "I/O Power", K2 VCCQ (power) "I/O Power", K3 GND (power) "Ground", K4 GND (power) "Ground", K5 GND (power) "Ground", K6 VCCQ (power) "I/O Power", L2 GND (power) "Ground", L3 VCC (power) "Power", L4 GND (power) "Ground", L5 VCC (power) "Power", L6 GND (power) "Ground", M2 VCCQ (power) "I/O Power", M3 GND (power) "Ground", M4 GND (power) "Ground", M5 GND (power) "Ground", M6 VCCQ (power) "I/O Power", N2 GND (power) "Ground", N3 VCC (power) "Power", N4 GND (power) "Ground", N5 VCC (power) "Power", N6 GND (power) "Ground", P2 VCCQ (power) "I/O Power", P3 GND (power) "Ground", P4 GND (power) "Ground", P5 GND (power) "Ground", P6 VCCQ (power) "I/O Power"
part C pins: A1 NC "No Connection", A7 NC "No Connection", B1 NC "No Connection", B7 NC "No Connection", C2 NC "No Connection", C4 NC "No Connection", C6 NC "No Connection", R2 NC "No Connection", R3 NC "No Connection", R4 NC "No Connection", R5 NC "No Connection", R6 NC "No Connection", T1 NC "No Connection", T7 NC "No Connection", U1 NC "No Connection", U7 NC "No Connection"

## IS61LV12824-8TQ
designator U?
3 M High Speed CMOS SRAM with 3.3 V Supply, 128 K x 24, 0 to 70 degC, 100-Pin QFP (TQFP-100); Manufacturer: Integrated Silicon Solution Inc (ISSI); PartNumber: IS61LV12824-8TQ; Density: 3M; Packing: Tray / Tube; Speed (ns): 8; DatasheetVersion: Rev. D; PackageVersion: Rev. F, 09/2009; PackageReference: TQFP-100; PackageDescription: 100-Pin 20 x 14 mm LQFP, Pitch 0.65 mm; Supplier 1: Digi-Key; Supplier Part Number 1: IS61LV12824-8TQ-ND; Supplier 2: Mouser; Supplier Part Number 2: 870-IS61LV12824-8TQ; Organization: 128K x 24; Mounting Technology: Surface Mount; ComponentLink1Description: Manufacturer URL; ComponentLink1URL: http://www.issi.com/US/index.shtml; ComponentLink2Description: Datasheet; ComponentLink2URL: http://www.issi.com/WW/pdf/61LV12824.pdf; ComponentLink3Description: Package Specification; ComponentLink3URL: http://www.issi.com/WW/pdf/61VPS_LPS25636A_51218A.pdf
footprint ISSI-TQFP-100-20000X14000DE_N (QFP, 100-Leads, Body 20x14mm, Pitch 0.65mm, IPC Medium Density)
part A pins: 4 I/O16 (io) "Data Input/Output", 5 I/O17 (io) "Data Input/Output", 8 I/O18 (io) "Data Input/Output", 9 I/O19 (io) "Data Input/Output", 12 I/O20 (io) "Data Input/Output", 13 I/O21 (io) "Data Input/Output", 18 I/O22 (io) "Data Input/Output", 19 I/O23 (io) "Data Input/Output", 22 I/O12 (io) "Data Input/Output", 23 I/O13 (io) "Data Input/Output", 26 I/O14 (io) "Data Input/Output", 27 I/O15 (io) "Data Input/Output", 35 A10 (in) "Address Input", 36 A9 (in) "Address Input", 37 A8 (in) "Address Input", 38 A7 (in) "Address Input", 39 ~{OE} (in) "Output Enable Input", 42 ~{WE} (in) "Write Enable Input", 43 A6 (in) "Address Input", 44 A0 (in) "Address Input", 45 A1 (in) "Address Input", 46 A2 (in) "Address Input", 54 I/O11 (io) "Data Input/Output", 55 I/O10 (io) "Data Input/Output", 58 I/O9 (io) "Data Input/Output", 59 I/O8 (io) "Data Input/Output", 62 I/O7 (io) "Data Input/Output", 63 I/O6 (io) "Data Input/Output", 68 I/O5 (io) "Data Input/Output", 69 I/O4 (io) "Data Input/Output", 72 I/O3 (io) "Data Input/Output", 73 I/O2 (io) "Data Input/Output", 76 I/O1 (io) "Data Input/Output", 77 I/O0 (io) "Data Input/Output", 85 A3 (in) "Address Input", 86 A4 (in) "Address Input", 87 A5 (in) "Address Input", 88 A16 (in) "Address Input", 89 ~{CE1} (in) "Chip Enable Input LOW", 90 ~{CE2} (in) "Chip Enable Input LOW", 93 CE2 (in) "Chip Enable Input HIGH", 94 A15 (in) "Address Input", 95 A14 (in) "Address Input", 96 A13 (in) "Address Input", 97 A12 (in) "Address Input", 98 A11 (in) "Address Input"
part B pins: 2 VCC (power) "Power", 3 GND (power) "Ground", 6 GND (power) "Ground", 7 VCCQ (power) "I/O Power", 10 GND (power) "Ground", 11 VCCQ (power) "I/O Power", 14 VCC (power) "Power", 17 GND (power) "Ground", 20 VCCQ (power) "I/O Power", 21 GND (power) "Ground", 24 VCCQ (power) "I/O Power", 25 GND (power) "Ground", 28 VCC (power) "Power", 29 GND (power) "Ground", 40 GND (power) "Ground", 41 VCC (power) "Power", 52 GND (power) "Ground", 53 VCC (power) "Power", 56 GND (power) "Ground", 57 VCCQ (power) "I/O Power", 60 GND (power) "Ground", 61 VCCQ (power) "I/O Power", 64 GND (power) "Ground", 67 VCC (power) "Power", 70 VCCQ (power) "I/O Power", 71 GND (power) "Ground", 74 VCCQ (power) "I/O Power", 75 GND (power) "Ground", 78 GND (power) "Ground", 79 VCC (power) "Power", 91 GND (power) "Ground", 92 VCC (power) "Power"
part C pins: 1 NC "No Connection", 15 NC "No Connection", 16 NC "No Connection", 30 NC "No Connection", 31 NC "No Connection", 32 NC "No Connection", 33 NC "No Connection", 34 NC "No Connection", 47 NC "No Connection", 48 NC "No Connection", 49 NC "No Connection", 50 NC "No Connection", 51 NC "No Connection", 65 NC "No Connection", 66 NC "No Connection", 80 NC "No Connection", 81 NC "No Connection", 82 NC "No Connection", 83 NC "No Connection", 84 NC "No Connection", 99 NC "No Connection", 100 NC "No Connection"

## IS61LV12824-8TQ-TR
designator U?
3 M High Speed CMOS SRAM with 3.3 V Supply, 128 K x 24, 0 to 70 degC, 100-Pin QFP (TQFP-100); Manufacturer: Integrated Silicon Solution Inc (ISSI); PartNumber: IS61LV12824-8TQ-TR; Density: 3M; Packing: Tape & Reel; Speed (ns): 8; DatasheetVersion: Rev. D; PackageVersion: Rev. F, 09/2009; PackageReference: TQFP-100; PackageDescription: 100-Pin 20 x 14 mm LQFP, Pitch 0.65 mm; Supplier 1: Digi-Key; Supplier Part Number 1: IS61LV12824-8TQ-TR-ND; Supplier 2: Mouser; Supplier Part Number 2: 870IS61LV128248TQTR; Organization: 128K x 24; Mounting Technology: Surface Mount; ComponentLink1Description: Manufacturer URL; ComponentLink1URL: http://www.issi.com/US/index.shtml; ComponentLink2Description: Datasheet; ComponentLink2URL: http://www.issi.com/WW/pdf/61LV12824.pdf; ComponentLink3Description: Package Specification; ComponentLink3URL: http://www.issi.com/WW/pdf/61VPS_LPS25636A_51218A.pdf
footprint ISSI-TQFP-100-20000X14000DE_N (QFP, 100-Leads, Body 20x14mm, Pitch 0.65mm, IPC Medium Density)
part A pins: 4 I/O16 (io) "Data Input/Output", 5 I/O17 (io) "Data Input/Output", 8 I/O18 (io) "Data Input/Output", 9 I/O19 (io) "Data Input/Output", 12 I/O20 (io) "Data Input/Output", 13 I/O21 (io) "Data Input/Output", 18 I/O22 (io) "Data Input/Output", 19 I/O23 (io) "Data Input/Output", 22 I/O12 (io) "Data Input/Output", 23 I/O13 (io) "Data Input/Output", 26 I/O14 (io) "Data Input/Output", 27 I/O15 (io) "Data Input/Output", 35 A10 (in) "Address Input", 36 A9 (in) "Address Input", 37 A8 (in) "Address Input", 38 A7 (in) "Address Input", 39 ~{OE} (in) "Output Enable Input", 42 ~{WE} (in) "Write Enable Input", 43 A6 (in) "Address Input", 44 A0 (in) "Address Input", 45 A1 (in) "Address Input", 46 A2 (in) "Address Input", 54 I/O11 (io) "Data Input/Output", 55 I/O10 (io) "Data Input/Output", 58 I/O9 (io) "Data Input/Output", 59 I/O8 (io) "Data Input/Output", 62 I/O7 (io) "Data Input/Output", 63 I/O6 (io) "Data Input/Output", 68 I/O5 (io) "Data Input/Output", 69 I/O4 (io) "Data Input/Output", 72 I/O3 (io) "Data Input/Output", 73 I/O2 (io) "Data Input/Output", 76 I/O1 (io) "Data Input/Output", 77 I/O0 (io) "Data Input/Output", 85 A3 (in) "Address Input", 86 A4 (in) "Address Input", 87 A5 (in) "Address Input", 88 A16 (in) "Address Input", 89 ~{CE1} (in) "Chip Enable Input LOW", 90 ~{CE2} (in) "Chip Enable Input LOW", 93 CE2 (in) "Chip Enable Input HIGH", 94 A15 (in) "Address Input", 95 A14 (in) "Address Input", 96 A13 (in) "Address Input", 97 A12 (in) "Address Input", 98 A11 (in) "Address Input"
part B pins: 2 VCC (power) "Power", 3 GND (power) "Ground", 6 GND (power) "Ground", 7 VCCQ (power) "I/O Power", 10 GND (power) "Ground", 11 VCCQ (power) "I/O Power", 14 VCC (power) "Power", 17 GND (power) "Ground", 20 VCCQ (power) "I/O Power", 21 GND (power) "Ground", 24 VCCQ (power) "I/O Power", 25 GND (power) "Ground", 28 VCC (power) "Power", 29 GND (power) "Ground", 40 GND (power) "Ground", 41 VCC (power) "Power", 52 GND (power) "Ground", 53 VCC (power) "Power", 56 GND (power) "Ground", 57 VCCQ (power) "I/O Power", 60 GND (power) "Ground", 61 VCCQ (power) "I/O Power", 64 GND (power) "Ground", 67 VCC (power) "Power", 70 VCCQ (power) "I/O Power", 71 GND (power) "Ground", 74 VCCQ (power) "I/O Power", 75 GND (power) "Ground", 78 GND (power) "Ground", 79 VCC (power) "Power", 91 GND (power) "Ground", 92 VCC (power) "Power"
part C pins: 1 NC "No Connection", 15 NC "No Connection", 16 NC "No Connection", 30 NC "No Connection", 31 NC "No Connection", 32 NC "No Connection", 33 NC "No Connection", 34 NC "No Connection", 47 NC "No Connection", 48 NC "No Connection", 49 NC "No Connection", 50 NC "No Connection", 51 NC "No Connection", 65 NC "No Connection", 66 NC "No Connection", 80 NC "No Connection", 81 NC "No Connection", 82 NC "No Connection", 83 NC "No Connection", 84 NC "No Connection", 99 NC "No Connection", 100 NC "No Connection"

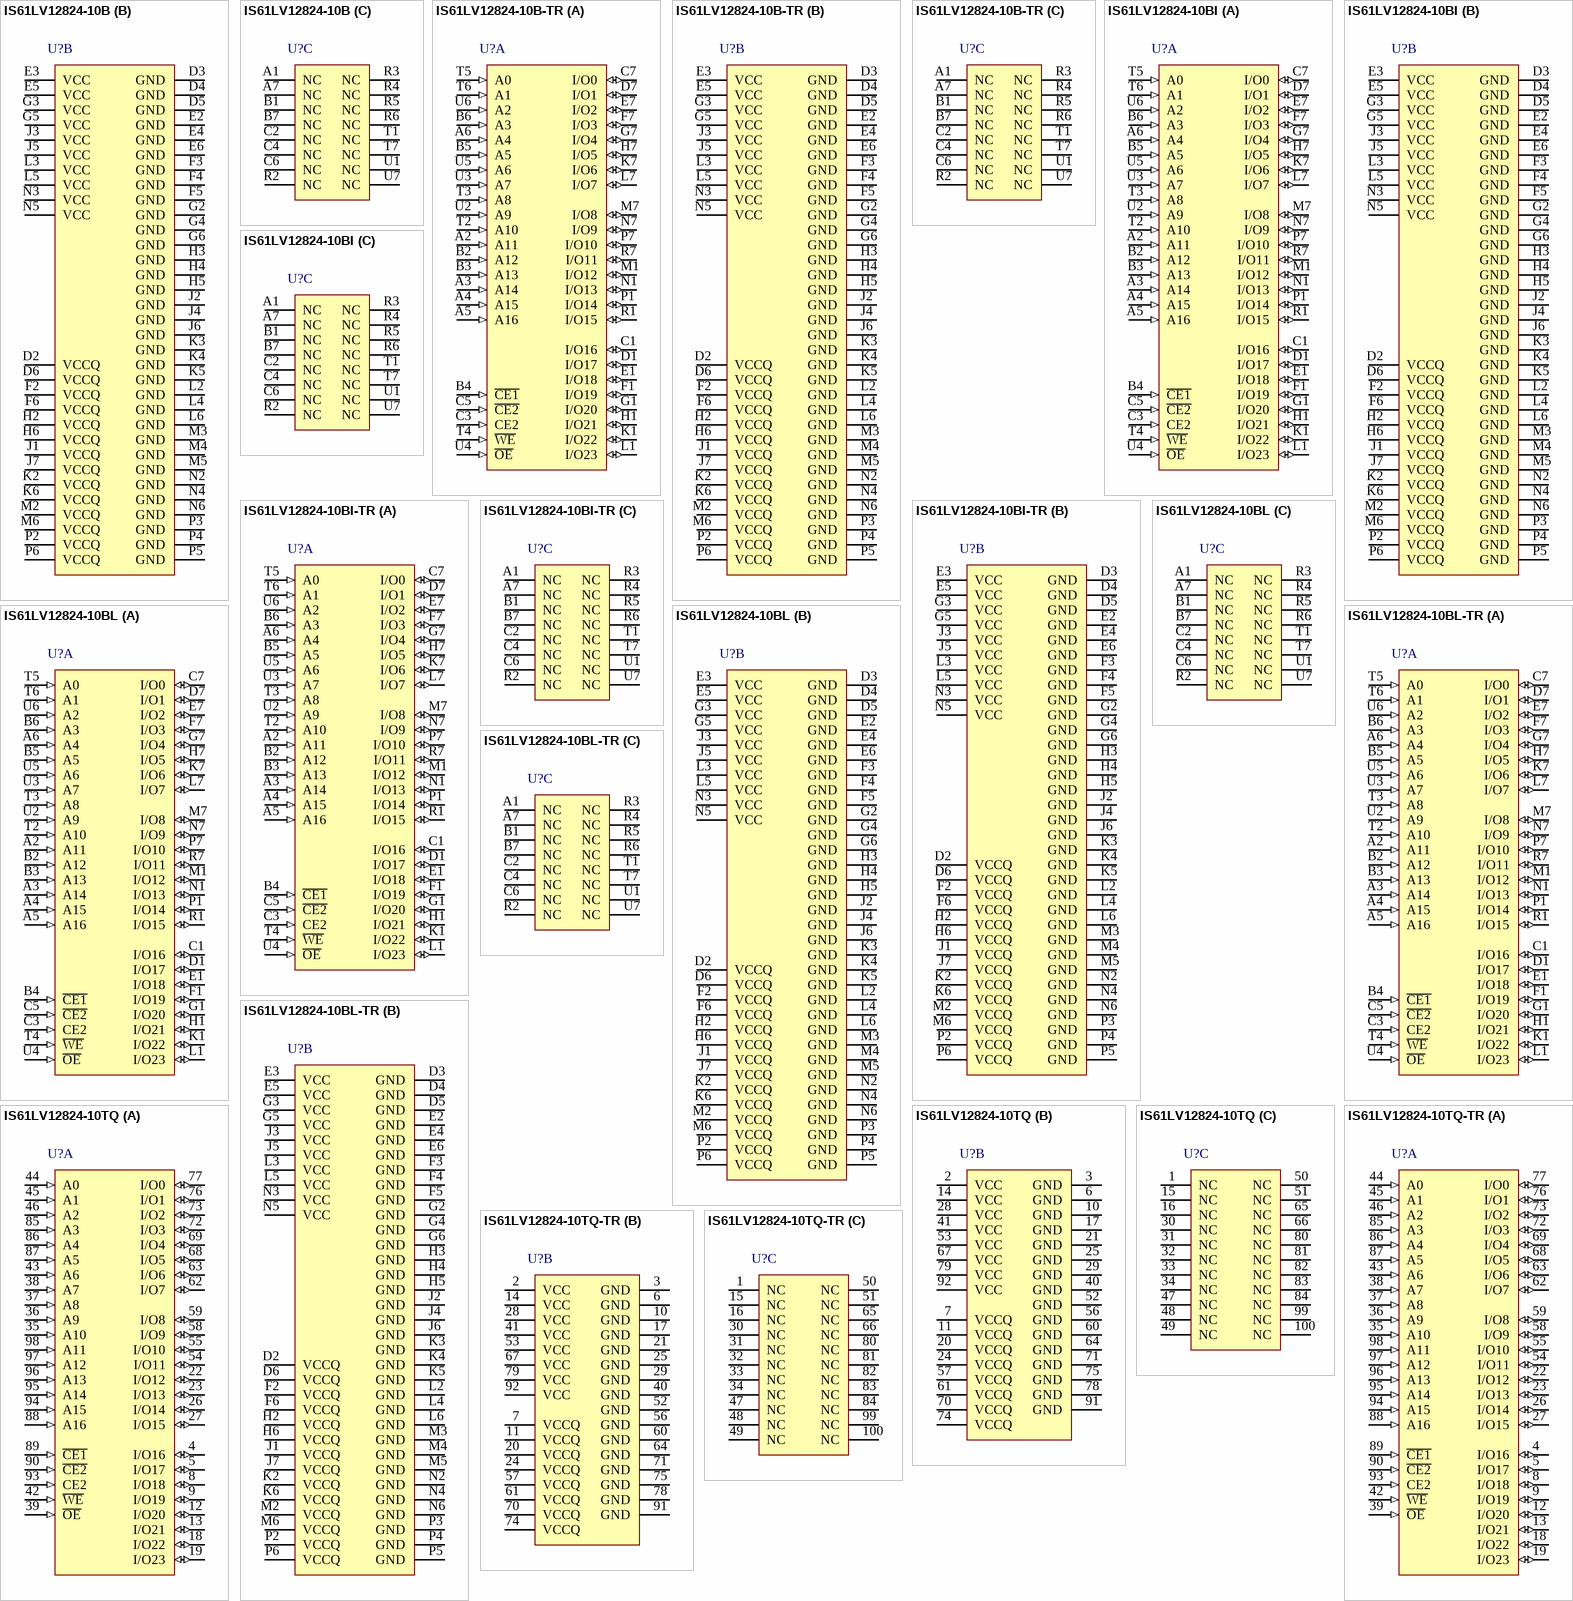
[diagram p3: symbols IS61LV12824-10B to IS61LV12824-10TQ-TR]

## IS61LV12824-10B
designator U?
3 M High Speed CMOS SRAM with 3.3 V Supply, 128 K x 24, 0 to 70 degC, 119-Pin BGA (PBGA-119); Manufacturer: Integrated Silicon Solution Inc (ISSI); PartNumber: IS61LV12824-10B; Density: 3M; Packing: Tray / Tube; Speed (ns): 10; DatasheetVersion: Rev. D; PackageVersion: Rev. B, 02/2003; PackageReference: PBGA-119; PackageDescription: 119-Pin 14 x 22 mm PBGA, Pitch 1.27 mm; Supplier 1: Digi-Key; Supplier Part Number 1: IS61LV12824-10B-ND; Supplier 2: Mouser; Supplier Part Number 2: 870-IS61LV12824-10B; Organization: 128K x 24; Mounting Technology: Surface Mount; ComponentLink1Description: Manufacturer URL; ComponentLink1URL: http://www.issi.com/US/index.shtml; ComponentLink2Description: Datasheet; ComponentLink2URL: http://www.issi.com/WW/pdf/61LV12824.pdf; ComponentLink3Description: Package Specification; ComponentLink3URL: http://www.issi.com/WW/pdf/61LV12824.pdf
footprint ISSI-PBGA-119-14000X22000DE_A (BGA, 119-Balls, Body 22x14mm, Pitch 1.27mm)
part A pins: A2 A11 (in) "Address Inputs", A3 A14 (in) "Address Inputs", A4 A15 (in) "Address Inputs", A5 A16 (in) "Address Inputs", A6 A4 (in) "Address Inputs", B2 A12 (in) "Address Inputs", B3 A13 (in) "Address Inputs", B4 ~{CE1} (in) "Chip Enable Input LOW", B5 A5 (in) "Address Input", B6 A3 (in) "Address Input", C1 I/O16 (io) "Data Inputs/Outputs", C3 CE2 (in) "Chip Enable Input HIGH", C5 ~{CE2} (in) "Chip Enable Input LOW", C7 I/O0 (io) "Data Inputs/Outputs", D1 I/O17 (io) "Data Inputs/Outputs", D7 I/O1 (io) "Data Inputs/Outputs", E1 I/O18 (io) "Data Inputs/Outputs", E7 I/O2 (io) "Data Inputs/Outputs", F1 I/O19 (io) "Data Inputs/Outputs", F7 I/O3 (io) "Data Inputs/Outputs", G1 I/O20 (io) "Data Inputs/Outputs", G7 I/O4 (io) "Data Inputs/Outputs", H1 I/O21 (io) "Data Inputs/Outputs", H7 I/O5 (io) "Data Inputs/Outputs", K1 I/O22 (io) "Data Inputs/Outputs", K7 I/O6 (io) "Data Inputs/Outputs", L1 I/O23 (io) "Data Inputs/Outputs", L7 I/O7 (io) "Data Inputs/Outputs", M1 I/O12 (io) "Data Inputs/Outputs", M7 I/O8 (io) "Data Inputs/Outputs", N1 I/O13 (io) "Data Inputs/Outputs", N7 I/O9 (io) "Data Inputs/Outputs", P1 I/O14 (io) "Data Inputs/Outputs", P7 I/O10 (io) "Data Inputs/Outputs", R1 I/O15 (io) "Data Inputs/Outputs", R7 I/O11 (io) "Data Inputs/Outputs", T2 A10 (in) "Address Inputs", T3 A8 (in) "Address Inputs", T4 ~{WE} (in) "Write Enable Input", T5 A0 (in) "Address Inputs", T6 A1 (in) "Address Inputs", U2 A9 (in) "Address Inputs", U3 A7 (in) "Address Inputs", U4 ~{OE} (in) "Output Enable Input", U5 A6 (in) "Address Inputs", U6 A2 (in) "Address Inputs"
part B pins: D2 VCCQ (power) "I/O Power", D3 GND (power) "Ground", D4 GND (power) "Ground", D5 GND (power) "Ground", D6 VCCQ (power) "I/O Power", E2 GND (power) "Ground", E3 VCC (power) "Power", E4 GND (power) "Ground", E5 VCC (power) "Power", E6 GND (power) "Ground", F2 VCCQ (power) "I/O Power", F3 GND (power) "Ground", F4 GND (power) "Ground", F5 GND (power) "Ground", F6 VCCQ (power) "I/O Power", G2 GND (power) "Ground", G3 VCC (power) "Power", G4 GND (power) "Ground", G5 VCC (power) "Power", G6 GND (power) "Ground", H2 VCCQ (power) "I/O Power", H3 GND (power) "Ground", H4 GND (power) "Ground", H5 GND (power) "Ground", H6 VCCQ (power) "I/O Power", J1 VCCQ (power) "I/O Power", J2 GND (power) "Ground", J3 VCC (power) "Power", J4 GND (power) "Ground", J5 VCC (power) "Power", J6 GND (power) "Ground", J7 VCCQ (power) "I/O Power", K2 VCCQ (power) "I/O Power", K3 GND (power) "Ground", K4 GND (power) "Ground", K5 GND (power) "Ground", K6 VCCQ (power) "I/O Power", L2 GND (power) "Ground", L3 VCC (power) "Power", L4 GND (power) "Ground", L5 VCC (power) "Power", L6 GND (power) "Ground", M2 VCCQ (power) "I/O Power", M3 GND (power) "Ground", M4 GND (power) "Ground", M5 GND (power) "Ground", M6 VCCQ (power) "I/O Power", N2 GND (power) "Ground", N3 VCC (power) "Power", N4 GND (power) "Ground", N5 VCC (power) "Power", N6 GND (power) "Ground", P2 VCCQ (power) "I/O Power", P3 GND (power) "Ground", P4 GND (power) "Ground", P5 GND (power) "Ground", P6 VCCQ (power) "I/O Power"
part C pins: A1 NC "No Connection", A7 NC "No Connection", B1 NC "No Connection", B7 NC "No Connection", C2 NC "No Connection", C4 NC "No Connection", C6 NC "No Connection", R2 NC "No Connection", R3 NC "No Connection", R4 NC "No Connection", R5 NC "No Connection", R6 NC "No Connection", T1 NC "No Connection", T7 NC "No Connection", U1 NC "No Connection", U7 NC "No Connection"